# Altium footprint library XH，VH.PcbLib: 67 footprints (part 3 of 5)
Each footprint in its own frame and in the unit in brackets; x right, y up, seen from the top. Pads: shape width x height; smd on the part's side, far side on the other; paste and mask are expansions set on the pad; w line width, h text height; cw(c..) or ccw(c..) is an arc to the next point about the centre after c.
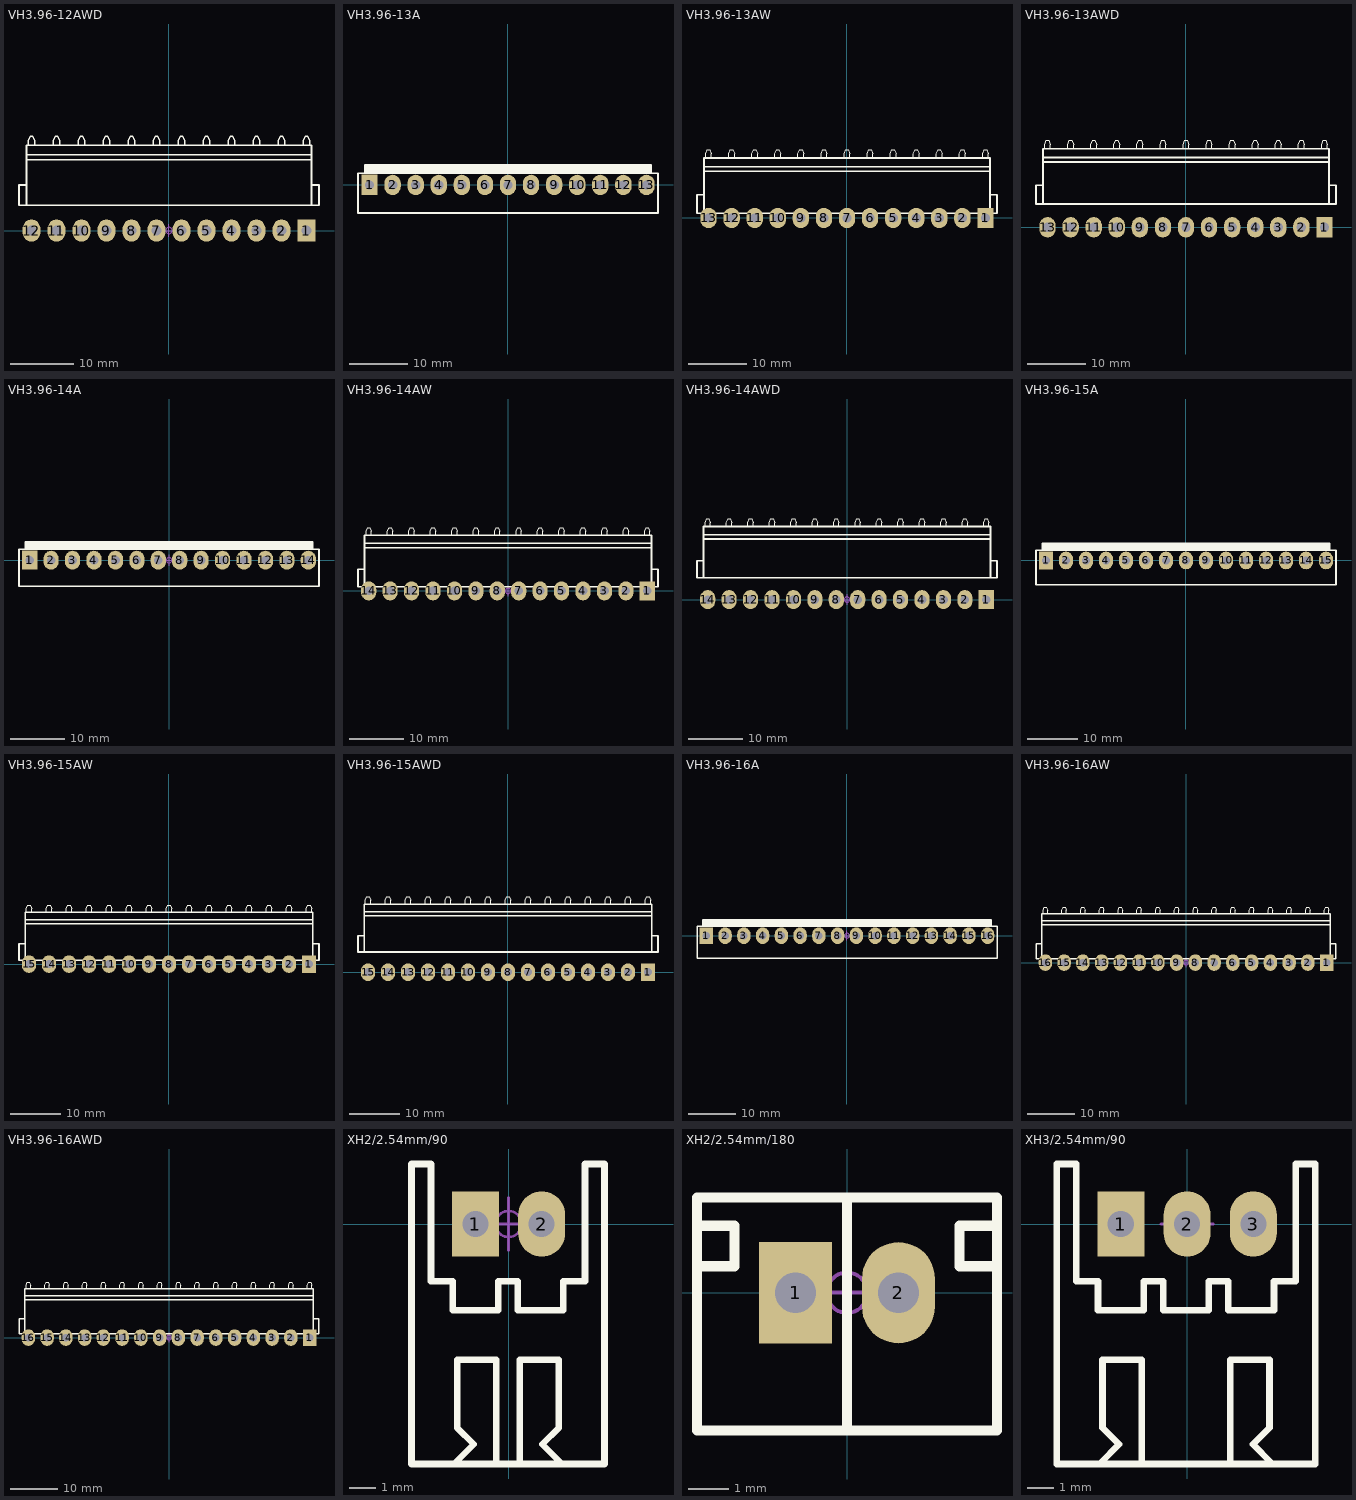
[diagram p2: the footprints below, top view; thin cyan lines are the x and y axes]

## VH3.96-12AWD [mm]
pads (12):
  rect 2.8x3.5 hole 1.6: 1(21.78,0)
  oval 2.8x3.5 hole 1.6: 2(17.82,0) 3(13.86,0) 4(9.9,0) 5(5.94,0) 6(1.98,0) 7(-1.98,0) 8(-5.94,0) 9(-9.9,0) 10(-13.86,0) 11(-17.82,0) 12(-21.78,0)
Top Overlay:
  lines w0.2: -22.28,13.5 -22.28,14.2 -21.98,14.9 -21.58,14.9 -21.28,14.2 -21.28,13.5 ; -18.32,13.5 -18.32,14.2 -18.02,14.9 -17.62,14.9 -17.32,14.2 -17.32,13.5 ; -14.36,13.5 -14.36,14.2 -14.06,14.9 -13.66,14.9 -13.36,14.2 -13.36,13.5 ; -10.4,13.5 -10.4,14.2 -10.1,14.9 -9.7,14.9 -9.4,14.2 -9.4,13.5 ; -6.44,13.5 -6.44,14.2 -6.14,14.9 -5.74,14.9 -5.44,14.2 -5.44,13.5 ; -2.48,13.5 -2.48,14.2 -2.18,14.9 -1.78,14.9 -1.48,14.2 -1.48,13.5 ; 1.48,13.5 1.48,14.2 1.78,14.9 2.18,14.9 2.48,14.2 2.48,13.5 ; 5.44,13.5 5.44,14.2 5.74,14.9 6.14,14.9 6.44,14.2 6.44,13.5 ; 9.4,13.5 9.4,14.2 9.7,14.9 10.1,14.9 10.4,14.2 10.4,13.5 ; 13.36,13.5 13.36,14.2 13.66,14.9 14.06,14.9 14.36,14.2 14.36,13.5 ; 17.32,13.5 17.32,14.2 17.62,14.9 18.02,14.9 18.32,14.2 18.32,13.5 ; 21.28,13.5 21.28,14.2 21.58,14.9 21.98,14.9 22.28,14.2 22.28,13.5
  lines w0.3: -22.56,4 -22.56,13.5 22.56,13.5 22.56,4 ; -22.56,7.2 -23.76,7.2 -23.76,4 23.76,4 23.76,7.2 22.56,7.2 ; -22.56,11.2 22.56,11.2 ; -22.56,12 22.56,12
Mechanical 15:
  circle w0.1: c0,0 r0.5
  lines w0.1: -1,0 1,0 ; 0,-1 0,1
3D body "VH3.96-12AW.STEP": height 8.4, standoff -3.6, extent -23.76,-0.55 23.76,14.9

## VH3.96-13A [mm]
pads (13):
  rect 2.8x3.5 hole 1.6: 1(-23.76,0)
  oval 2.8x3.5 hole 1.6: 2(-19.8,0) 3(-15.84,0) 4(-11.88,0) 5(-7.92,0) 6(-3.96,0) 7(0,0) 8(3.96,0) 9(7.92,0) 10(11.88,0) 11(15.84,0) 12(19.8,0) 13(23.76,0)
Top Overlay:
  lines w0.3: -24.54,2 -24.54,3.4 24.54,3.4 24.54,2 ; -24.54,2.159 24.54,2.159 ; -24.54,2.413 24.54,2.413 ; -24.54,2.667 24.54,2.667 ; -24.54,2.921 24.54,2.921 ; -24.54,3.175 24.54,3.175 ; -25.74,-4.8 25.74,-4.8 25.74,2 -25.74,2 -25.74,-4.8
Mechanical 15:
  circle w0.1: c0,0 r0.5
  lines w0.1: -1,0 1,0 ; 0,-1 0,1
3D body "VH3.96-13A.STEP": height 14.6, standoff -3.6, extent -25.74,-4.8 25.74,3.6

## VH3.96-13AW [mm]
pads (13):
  rect 2.8x3.5 hole 1.6: 1(23.76,0)
  oval 2.8x3.5 hole 1.6: 2(19.8,0) 3(15.84,0) 4(11.88,0) 5(7.92,0) 6(3.96,0) 7(0,0) 8(-3.96,0) 9(-7.92,0) 10(-11.88,0) 11(-15.84,0) 12(-19.8,0) 13(-23.76,0)
Top Overlay:
  lines w0.2: -24.26,10.3 -24.26,11 -23.96,11.7 -23.56,11.7 -23.26,11 -23.26,10.3 ; -20.3,10.3 -20.3,11 -20,11.7 -19.6,11.7 -19.3,11 -19.3,10.3 ; -16.34,10.3 -16.34,11 -16.04,11.7 -15.64,11.7 -15.34,11 -15.34,10.3 ; -12.38,10.3 -12.38,11 -12.08,11.7 -11.68,11.7 -11.38,11 -11.38,10.3 ; -8.42,10.3 -8.42,11 -8.12,11.7 -7.72,11.7 -7.42,11 -7.42,10.3 ; -4.46,10.3 -4.46,11 -4.16,11.7 -3.76,11.7 -3.46,11 -3.46,10.3 ; -0.5,10.3 -0.5,11 -0.2,11.7 0.2,11.7 0.5,11 0.5,10.3 ; 3.46,10.3 3.46,11 3.76,11.7 4.16,11.7 4.46,11 4.46,10.3 ; 7.42,10.3 7.42,11 7.72,11.7 8.12,11.7 8.42,11 8.42,10.3 ; 11.38,10.3 11.38,11 11.68,11.7 12.08,11.7 12.38,11 12.38,10.3 ; 15.34,10.3 15.34,11 15.64,11.7 16.04,11.7 16.34,11 16.34,10.3 ; 19.3,10.3 19.3,11 19.6,11.7 20,11.7 20.3,11 20.3,10.3 ; 23.26,10.3 23.26,11 23.56,11.7 23.96,11.7 24.26,11 24.26,10.3
  lines w0.3: -24.54,0.8 -24.54,10.3 24.54,10.3 24.54,0.8 ; -24.54,4 -25.74,4 -25.74,0.8 25.74,0.8 25.74,4 24.54,4 ; -24.54,8 24.54,8 ; -24.54,8.8 24.54,8.8
Mechanical 15:
  circle w0.1: c0,0 r0.5
  lines w0.1: -1,0 1,0 ; 0,-1 0,1
3D body "VH3.96-13AW.STEP": height 8.4, standoff -3.6, extent -25.74,-0.55 25.74,11.7

## VH3.96-13AWD [mm]
pads (13):
  rect 2.8x3.5 hole 1.6: 1(23.76,0)
  oval 2.8x3.5 hole 1.6: 2(19.8,0) 3(15.84,0) 4(11.88,0) 5(7.92,0) 6(3.96,0) 7(0,0) 8(-3.96,0) 9(-7.92,0) 10(-11.88,0) 11(-15.84,0) 12(-19.8,0) 13(-23.76,0)
Top Overlay:
  lines w0.2: -24.26,13.5 -24.26,14.2 -23.96,14.9 -23.56,14.9 -23.26,14.2 -23.26,13.5 ; -20.3,13.5 -20.3,14.2 -20,14.9 -19.6,14.9 -19.3,14.2 -19.3,13.5 ; -16.34,13.5 -16.34,14.2 -16.04,14.9 -15.64,14.9 -15.34,14.2 -15.34,13.5 ; -12.38,13.5 -12.38,14.2 -12.08,14.9 -11.68,14.9 -11.38,14.2 -11.38,13.5 ; -8.42,13.5 -8.42,14.2 -8.12,14.9 -7.72,14.9 -7.42,14.2 -7.42,13.5 ; -4.46,13.5 -4.46,14.2 -4.16,14.9 -3.76,14.9 -3.46,14.2 -3.46,13.5 ; -0.5,13.5 -0.5,14.2 -0.2,14.9 0.2,14.9 0.5,14.2 0.5,13.5 ; 3.46,13.5 3.46,14.2 3.76,14.9 4.16,14.9 4.46,14.2 4.46,13.5 ; 7.42,13.5 7.42,14.2 7.72,14.9 8.12,14.9 8.42,14.2 8.42,13.5 ; 11.38,13.5 11.38,14.2 11.68,14.9 12.08,14.9 12.38,14.2 12.38,13.5 ; 15.34,13.5 15.34,14.2 15.64,14.9 16.04,14.9 16.34,14.2 16.34,13.5 ; 19.3,13.5 19.3,14.2 19.6,14.9 20,14.9 20.3,14.2 20.3,13.5 ; 23.26,13.5 23.26,14.2 23.56,14.9 23.96,14.9 24.26,14.2 24.26,13.5
  lines w0.3: -24.54,4 -24.54,13.5 24.54,13.5 24.54,4 ; -24.54,7.2 -25.74,7.2 -25.74,4 25.74,4 25.74,7.2 24.54,7.2 ; -24.54,11.2 24.54,11.2 ; -24.54,12 24.54,12
Mechanical 15:
  circle w0.1: c0,0 r0.5
  lines w0.1: -1,0 1,0 ; 0,-1 0,1
3D body "VH3.96-13AW.STEP": height 8.4, standoff -3.6, extent -25.74,-0.55 25.74,14.9

## VH3.96-14A [mm]
pads (14):
  rect 2.8x3.5 hole 1.6: 1(-25.74,0)
  oval 2.8x3.5 hole 1.6: 2(-21.78,0) 3(-17.82,0) 4(-13.86,0) 5(-9.9,0) 6(-5.94,0) 7(-1.98,0) 8(1.98,0) 9(5.94,0) 10(9.9,0) 11(13.86,0) 12(17.82,0) 13(21.78,0) 14(25.74,0)
Top Overlay:
  lines w0.3: -26.52,2 -26.52,3.4 26.52,3.4 26.52,2 ; -26.52,2.159 26.52,2.159 ; -26.52,2.413 26.52,2.413 ; -26.52,2.667 26.52,2.667 ; -26.52,2.921 26.52,2.921 ; -26.52,3.175 26.52,3.175 ; -27.72,-4.8 -27.72,2 27.72,2 27.72,-4.8 -27.72,-4.8
Mechanical 15:
  circle w0.1: c0,0 r0.5
  lines w0.1: -1,0 1,0 ; 0,-1 0,1
3D body "VH3.96-14A.STEP": height 14.6, standoff -3.6, extent -27.72,-4.8 27.72,3.6

## VH3.96-14AW [mm]
pads (14):
  rect 2.8x3.5 hole 1.6: 1(25.74,0)
  oval 2.8x3.5 hole 1.6: 2(21.78,0) 3(17.82,0) 4(13.86,0) 5(9.9,0) 6(5.94,0) 7(1.98,0) 8(-1.98,0) 9(-5.94,0) 10(-9.9,0) 11(-13.86,0) 12(-17.82,0) 13(-21.78,0) 14(-25.74,0)
Top Overlay:
  lines w0.2: -26.24,10.3 -26.24,11 -25.94,11.7 -25.54,11.7 -25.24,11 -25.24,10.3 ; -22.28,10.3 -22.28,11 -21.98,11.7 -21.58,11.7 -21.28,11 -21.28,10.3 ; -18.32,10.3 -18.32,11 -18.02,11.7 -17.62,11.7 -17.32,11 -17.32,10.3 ; -14.36,10.3 -14.36,11 -14.06,11.7 -13.66,11.7 -13.36,11 -13.36,10.3 ; -10.4,10.3 -10.4,11 -10.1,11.7 -9.7,11.7 -9.4,11 -9.4,10.3 ; -6.44,10.3 -6.44,11 -6.14,11.7 -5.74,11.7 -5.44,11 -5.44,10.3 ; -2.48,10.3 -2.48,11 -2.18,11.7 -1.78,11.7 -1.48,11 -1.48,10.3 ; 1.48,10.3 1.48,11 1.78,11.7 2.18,11.7 2.48,11 2.48,10.3 ; 5.44,10.3 5.44,11 5.74,11.7 6.14,11.7 6.44,11 6.44,10.3 ; 9.4,10.3 9.4,11 9.7,11.7 10.1,11.7 10.4,11 10.4,10.3 ; 13.36,10.3 13.36,11 13.66,11.7 14.06,11.7 14.36,11 14.36,10.3 ; 17.32,10.3 17.32,11 17.62,11.7 18.02,11.7 18.32,11 18.32,10.3 ; 21.28,10.3 21.28,11 21.58,11.7 21.98,11.7 22.28,11 22.28,10.3 ; 25.24,10.3 25.24,11 25.54,11.7 25.94,11.7 26.24,11 26.24,10.3
  lines w0.3: -26.52,0.8 -26.52,10.3 26.52,10.3 26.52,0.8 ; -26.52,4 -27.72,4 -27.72,0.8 27.72,0.8 27.72,4 26.52,4 ; -26.52,8 26.52,8 ; -26.52,8.8 26.52,8.8
Mechanical 15:
  circle w0.1: c0,0 r0.5
  lines w0.1: -1,0 1,0 ; 0,-1 0,1
3D body "VH3.96-14AW.STEP": height 8.4, standoff -3.6, extent -27.72,-0.55 27.72,11.7

## VH3.96-14AWD [mm]
pads (14):
  rect 2.8x3.5 hole 1.6: 1(25.74,0)
  oval 2.8x3.5 hole 1.6: 2(21.78,0) 3(17.82,0) 4(13.86,0) 5(9.9,0) 6(5.94,0) 7(1.98,0) 8(-1.98,0) 9(-5.94,0) 10(-9.9,0) 11(-13.86,0) 12(-17.82,0) 13(-21.78,0) 14(-25.74,0)
Top Overlay:
  lines w0.2: -26.24,13.5 -26.24,14.2 -25.94,14.9 -25.54,14.9 -25.24,14.2 -25.24,13.5 ; -22.28,13.5 -22.28,14.2 -21.98,14.9 -21.58,14.9 -21.28,14.2 -21.28,13.5 ; -18.32,13.5 -18.32,14.2 -18.02,14.9 -17.62,14.9 -17.32,14.2 -17.32,13.5 ; -14.36,13.5 -14.36,14.2 -14.06,14.9 -13.66,14.9 -13.36,14.2 -13.36,13.5 ; -10.4,13.5 -10.4,14.2 -10.1,14.9 -9.7,14.9 -9.4,14.2 -9.4,13.5 ; -6.44,13.5 -6.44,14.2 -6.14,14.9 -5.74,14.9 -5.44,14.2 -5.44,13.5 ; -2.48,13.5 -2.48,14.2 -2.18,14.9 -1.78,14.9 -1.48,14.2 -1.48,13.5 ; 1.48,13.5 1.48,14.2 1.78,14.9 2.18,14.9 2.48,14.2 2.48,13.5 ; 5.44,13.5 5.44,14.2 5.74,14.9 6.14,14.9 6.44,14.2 6.44,13.5 ; 9.4,13.5 9.4,14.2 9.7,14.9 10.1,14.9 10.4,14.2 10.4,13.5 ; 13.36,13.5 13.36,14.2 13.66,14.9 14.06,14.9 14.36,14.2 14.36,13.5 ; 17.32,13.5 17.32,14.2 17.62,14.9 18.02,14.9 18.32,14.2 18.32,13.5 ; 21.28,13.5 21.28,14.2 21.58,14.9 21.98,14.9 22.28,14.2 22.28,13.5 ; 25.24,13.5 25.24,14.2 25.54,14.9 25.94,14.9 26.24,14.2 26.24,13.5
  lines w0.3: -26.52,4 -26.52,13.5 26.52,13.5 26.52,4 ; -26.52,7.2 -27.72,7.2 -27.72,4 27.72,4 27.72,7.2 26.52,7.2 ; -26.52,11.2 26.52,11.2 ; -26.52,12 26.52,12
Mechanical 15:
  circle w0.1: c0,0 r0.5
  lines w0.1: -1,0 1,0 ; 0,-1 0,1
3D body "VH3.96-14AW.STEP": height 8.4, standoff -3.6, extent -27.72,-0.55 27.72,14.9

## VH3.96-15A [mm]
pads (15):
  rect 2.8x3.5 hole 1.6: 1(-27.72,0)
  oval 2.8x3.5 hole 1.6: 2(-23.76,0) 3(-19.8,0) 4(-15.84,0) 5(-11.88,0) 6(-7.92,0) 7(-3.96,0) 8(0,0) 9(3.96,0) 10(7.92,0) 11(11.88,0) 12(15.84,0) 13(19.8,0) 14(23.76,0) 15(27.72,0)
Top Overlay:
  lines w0.3: -28.5,2 -28.5,3.4 28.5,3.4 28.5,2 ; -28.5,2.159 28.5,2.159 ; -28.5,2.413 28.5,2.413 ; -28.5,2.667 28.5,2.667 ; -28.5,2.921 28.5,2.921 ; -28.5,3.175 28.5,3.175 ; -29.7,-4.8 29.7,-4.8 29.7,2 -29.7,2 -29.7,-4.8
Mechanical 15:
  circle w0.1: c0,0 r0.5
  lines w0.1: -1,0 1,0 ; 0,-1 0,1
3D body "VH3.96-15A.STEP": height 14.6, standoff -3.6, extent -29.7,-4.8 29.7,3.6

## VH3.96-15AW [mm]
pads (15):
  rect 2.8x3.5 hole 1.6: 1(27.72,0)
  oval 2.8x3.5 hole 1.6: 2(23.76,0) 3(19.8,0) 4(15.84,0) 5(11.88,0) 6(7.92,0) 7(3.96,0) 8(0,0) 9(-3.96,0) 10(-7.92,0) 11(-11.88,0) 12(-15.84,0) 13(-19.8,0) 14(-23.76,0) 15(-27.72,0)
Top Overlay:
  lines w0.2: -28.22,10.3 -28.22,11 -27.92,11.7 -27.52,11.7 -27.22,11 -27.22,10.3 ; -24.26,10.3 -24.26,11 -23.96,11.7 -23.56,11.7 -23.26,11 -23.26,10.3 ; -20.3,10.3 -20.3,11 -20,11.7 -19.6,11.7 -19.3,11 -19.3,10.3 ; -16.34,10.3 -16.34,11 -16.04,11.7 -15.64,11.7 -15.34,11 -15.34,10.3 ; -12.38,10.3 -12.38,11 -12.08,11.7 -11.68,11.7 -11.38,11 -11.38,10.3 ; -8.42,10.3 -8.42,11 -8.12,11.7 -7.72,11.7 -7.42,11 -7.42,10.3 ; -4.46,10.3 -4.46,11 -4.16,11.7 -3.76,11.7 -3.46,11 -3.46,10.3 ; -0.5,10.3 -0.5,11 -0.2,11.7 0.2,11.7 0.5,11 0.5,10.3 ; 3.46,10.3 3.46,11 3.76,11.7 4.16,11.7 4.46,11 4.46,10.3 ; 7.42,10.3 7.42,11 7.72,11.7 8.12,11.7 8.42,11 8.42,10.3 ; 11.38,10.3 11.38,11 11.68,11.7 12.08,11.7 12.38,11 12.38,10.3 ; 15.34,10.3 15.34,11 15.64,11.7 16.04,11.7 16.34,11 16.34,10.3 ; 19.3,10.3 19.3,11 19.6,11.7 20,11.7 20.3,11 20.3,10.3 ; 23.26,10.3 23.26,11 23.56,11.7 23.96,11.7 24.26,11 24.26,10.3 ; 27.22,10.3 27.22,11 27.52,11.7 27.92,11.7 28.22,11 28.22,10.3
  lines w0.3: -28.5,0.8 -28.5,10.3 28.5,10.3 28.5,0.8 ; -28.5,4 -29.7,4 -29.7,0.8 29.7,0.8 29.7,4 28.5,4 ; -28.5,8 28.5,8 ; -28.5,8.8 28.5,8.8
Mechanical 15:
  circle w0.1: c0,0 r0.5
  lines w0.1: -1,0 1,0 ; 0,-1 0,1
3D body "VH3.96-15AW.STEP": height 8.4, standoff -3.6, extent -29.7,-0.55 29.7,11.7

## VH3.96-15AWD [mm]
pads (15):
  rect 2.8x3.5 hole 1.6: 1(27.72,0)
  oval 2.8x3.5 hole 1.6: 2(23.76,0) 3(19.8,0) 4(15.84,0) 5(11.88,0) 6(7.92,0) 7(3.96,0) 8(0,0) 9(-3.96,0) 10(-7.92,0) 11(-11.88,0) 12(-15.84,0) 13(-19.8,0) 14(-23.76,0) 15(-27.72,0)
Top Overlay:
  lines w0.2: -28.22,13.5 -28.22,14.2 -27.92,14.9 -27.52,14.9 -27.22,14.2 -27.22,13.5 ; -24.26,13.5 -24.26,14.2 -23.96,14.9 -23.56,14.9 -23.26,14.2 -23.26,13.5 ; -20.3,13.5 -20.3,14.2 -20,14.9 -19.6,14.9 -19.3,14.2 -19.3,13.5 ; -16.34,13.5 -16.34,14.2 -16.04,14.9 -15.64,14.9 -15.34,14.2 -15.34,13.5 ; -12.38,13.5 -12.38,14.2 -12.08,14.9 -11.68,14.9 -11.38,14.2 -11.38,13.5 ; -8.42,13.5 -8.42,14.2 -8.12,14.9 -7.72,14.9 -7.42,14.2 -7.42,13.5 ; -4.46,13.5 -4.46,14.2 -4.16,14.9 -3.76,14.9 -3.46,14.2 -3.46,13.5 ; -0.5,13.5 -0.5,14.2 -0.2,14.9 0.2,14.9 0.5,14.2 0.5,13.5 ; 3.46,13.5 3.46,14.2 3.76,14.9 4.16,14.9 4.46,14.2 4.46,13.5 ; 7.42,13.5 7.42,14.2 7.72,14.9 8.12,14.9 8.42,14.2 8.42,13.5 ; 11.38,13.5 11.38,14.2 11.68,14.9 12.08,14.9 12.38,14.2 12.38,13.5 ; 15.34,13.5 15.34,14.2 15.64,14.9 16.04,14.9 16.34,14.2 16.34,13.5 ; 19.3,13.5 19.3,14.2 19.6,14.9 20,14.9 20.3,14.2 20.3,13.5 ; 23.26,13.5 23.26,14.2 23.56,14.9 23.96,14.9 24.26,14.2 24.26,13.5 ; 27.22,13.5 27.22,14.2 27.52,14.9 27.92,14.9 28.22,14.2 28.22,13.5
  lines w0.3: -28.5,4 -28.5,13.5 28.5,13.5 28.5,4 ; -28.5,7.2 -29.7,7.2 -29.7,4 29.7,4 29.7,7.2 28.5,7.2 ; -28.5,11.2 28.5,11.2 ; -28.5,12 28.5,12
Mechanical 15:
  circle w0.1: c0,0 r0.5
  lines w0.1: -1,0 1,0 ; 0,-1 0,1
3D body "VH3.96-15AW.STEP": height 8.4, standoff -3.6, extent -29.7,-0.55 29.7,14.9

## VH3.96-16A [mm]
pads (16):
  rect 2.8x3.5 hole 1.6: 1(-29.7,0)
  oval 2.8x3.5 hole 1.6: 2(-25.74,0) 3(-21.78,0) 4(-17.82,0) 5(-13.86,0) 6(-9.9,0) 7(-5.94,0) 8(-1.98,0) 9(1.98,0) 10(5.94,0) 11(9.9,0) 12(13.86,0) 13(17.82,0) 14(21.78,0) 15(25.74,0) 16(29.7,0)
Top Overlay:
  lines w0.3: -30.48,2 -30.48,3.4 30.48,3.4 30.48,2 ; -30.48,2.159 30.48,2.159 ; -30.48,2.413 30.48,2.413 ; -30.48,2.667 30.48,2.667 ; -30.48,2.921 30.48,2.921 ; -30.48,3.175 30.48,3.175 ; -31.68,-4.8 -31.68,2 31.68,2 31.68,-4.8 -31.68,-4.8
Mechanical 15:
  circle w0.1: c0,0 r0.5
  lines w0.1: -1,0 1,0 ; 0,-1 0,1
3D body "VH3.96-16A.STEP": height 14.6, standoff -3.6, extent -31.68,-4.8 31.68,3.6

## VH3.96-16AW [mm]
pads (16):
  rect 2.8x3.5 hole 1.6: 1(29.7,0)
  oval 2.8x3.5 hole 1.6: 2(25.74,0) 3(21.78,0) 4(17.82,0) 5(13.86,0) 6(9.9,0) 7(5.94,0) 8(1.98,0) 9(-1.98,0) 10(-5.94,0) 11(-9.9,0) 12(-13.86,0) 13(-17.82,0) 14(-21.78,0) 15(-25.74,0) 16(-29.7,0)
Top Overlay:
  lines w0.2: -30.2,10.3 -30.2,11 -29.9,11.7 -29.5,11.7 -29.2,11 -29.2,10.3 ; -26.24,10.3 -26.24,11 -25.94,11.7 -25.54,11.7 -25.24,11 -25.24,10.3 ; -22.28,10.3 -22.28,11 -21.98,11.7 -21.58,11.7 -21.28,11 -21.28,10.3 ; -18.32,10.3 -18.32,11 -18.02,11.7 -17.62,11.7 -17.32,11 -17.32,10.3 ; -14.36,10.3 -14.36,11 -14.06,11.7 -13.66,11.7 -13.36,11 -13.36,10.3 ; -10.4,10.3 -10.4,11 -10.1,11.7 -9.7,11.7 -9.4,11 -9.4,10.3 ; -6.44,10.3 -6.44,11 -6.14,11.7 -5.74,11.7 -5.44,11 -5.44,10.3 ; -2.48,10.3 -2.48,11 -2.18,11.7 -1.78,11.7 -1.48,11 -1.48,10.3 ; 1.48,10.3 1.48,11 1.78,11.7 2.18,11.7 2.48,11 2.48,10.3 ; 5.44,10.3 5.44,11 5.74,11.7 6.14,11.7 6.44,11 6.44,10.3 ; 9.4,10.3 9.4,11 9.7,11.7 10.1,11.7 10.4,11 10.4,10.3 ; 13.36,10.3 13.36,11 13.66,11.7 14.06,11.7 14.36,11 14.36,10.3 ; 17.32,10.3 17.32,11 17.62,11.7 18.02,11.7 18.32,11 18.32,10.3 ; 21.28,10.3 21.28,11 21.58,11.7 21.98,11.7 22.28,11 22.28,10.3 ; 25.24,10.3 25.24,11 25.54,11.7 25.94,11.7 26.24,11 26.24,10.3 ; 29.2,10.3 29.2,11 29.5,11.7 29.9,11.7 30.2,11 30.2,10.3
  lines w0.3: -30.48,0.8 -30.48,10.3 30.48,10.3 30.48,0.8 ; -30.48,4 -31.68,4 -31.68,0.8 31.68,0.8 31.68,4 30.48,4 ; -30.48,8 30.48,8 ; -30.48,8.8 30.48,8.8
Mechanical 15:
  circle w0.1: c0,0 r0.5
  lines w0.1: -1,0 1,0 ; 0,-1 0,1
3D body "VH3.96-16AW.STEP": height 8.4, standoff -3.6, extent -31.68,-0.55 31.68,11.7

## VH3.96-16AWD [mm]
pads (16):
  rect 2.8x3.5 hole 1.6: 1(29.7,0)
  oval 2.8x3.5 hole 1.6: 2(25.74,0) 3(21.78,0) 4(17.82,0) 5(13.86,0) 6(9.9,0) 7(5.94,0) 8(1.98,0) 9(-1.98,0) 10(-5.94,0) 11(-9.9,0) 12(-13.86,0) 13(-17.82,0) 14(-21.78,0) 15(-25.74,0) 16(-29.7,0)
Top Overlay:
  lines w0.2: -30.2,10.3 -30.2,11 -29.9,11.7 -29.5,11.7 -29.2,11 -29.2,10.3 ; -26.24,10.3 -26.24,11 -25.94,11.7 -25.54,11.7 -25.24,11 -25.24,10.3 ; -22.28,10.3 -22.28,11 -21.98,11.7 -21.58,11.7 -21.28,11 -21.28,10.3 ; -18.32,10.3 -18.32,11 -18.02,11.7 -17.62,11.7 -17.32,11 -17.32,10.3 ; -14.36,10.3 -14.36,11 -14.06,11.7 -13.66,11.7 -13.36,11 -13.36,10.3 ; -10.4,10.3 -10.4,11 -10.1,11.7 -9.7,11.7 -9.4,11 -9.4,10.3 ; -6.44,10.3 -6.44,11 -6.14,11.7 -5.74,11.7 -5.44,11 -5.44,10.3 ; -2.48,10.3 -2.48,11 -2.18,11.7 -1.78,11.7 -1.48,11 -1.48,10.3 ; 1.48,10.3 1.48,11 1.78,11.7 2.18,11.7 2.48,11 2.48,10.3 ; 5.44,10.3 5.44,11 5.74,11.7 6.14,11.7 6.44,11 6.44,10.3 ; 9.4,10.3 9.4,11 9.7,11.7 10.1,11.7 10.4,11 10.4,10.3 ; 13.36,10.3 13.36,11 13.66,11.7 14.06,11.7 14.36,11 14.36,10.3 ; 17.32,10.3 17.32,11 17.62,11.7 18.02,11.7 18.32,11 18.32,10.3 ; 21.28,10.3 21.28,11 21.58,11.7 21.98,11.7 22.28,11 22.28,10.3 ; 25.24,10.3 25.24,11 25.54,11.7 25.94,11.7 26.24,11 26.24,10.3 ; 29.2,10.3 29.2,11 29.5,11.7 29.9,11.7 30.2,11 30.2,10.3
  lines w0.3: -30.48,0.8 -30.48,10.3 30.48,10.3 30.48,0.8 ; -30.48,4 -31.68,4 -31.68,0.8 31.68,0.8 31.68,4 30.48,4 ; -30.48,8 30.48,8 ; -30.48,8.8 30.48,8.8
Mechanical 15:
  circle w0.1: c0,0 r0.5
  lines w0.1: -1,0 1,0 ; 0,-1 0,1
3D body "VH3.96-16AW.STEP": height 8.4, standoff -3.6, extent -31.68,-0.55 31.68,11.7

## XH2/2.54mm/90 [mm]
pads (2):
  rect 1.8x2.5 hole 1: 1(-1.27,0)
  oval 1.8x2.5 hole 1: 2(1.27,0)
Top Overlay:
  lines w0.254: -2.06,-9.172 -1.333,-8.445 -1.97,-7.809 -1.97,-5.2 -0.47,-5.2 -0.47,-9.2 ; 0.43,-9.2 0.43,-5.2 1.93,-5.2 1.93,-7.809 1.294,-8.445 2.02,-9.172 ; -3.72,-9.2 3.68,-9.2 3.68,2.3 2.93,2.3 2.93,-2.2 2.105,-2.2 2.105,-3.3 0.355,-3.3 0.355,-2.2 -0.395,-2.2 -0.395,-3.3 -2.145,-3.3 -2.145,-2.2 -2.97,-2.2 -2.97,2.3 -3.72,2.3 -3.72,-9.2
Mechanical 15:
  circle w0.1: c0,0 r0.5
  lines w0.1: -1,0 1,0 ; 0,-1 0,1
3D body "JST-S2B-XH-A.STEP": height 6.1, standoff -3.4, extent -3.72,-9.2 3.68,2.3

## XH2/2.54mm/180 [mm]
pads (2):
  rect 1.8x2.5 hole 1: 1(-1.27,0)
  oval 1.8x2.5 hole 1: 2(1.27,0)
Top Overlay:
  lines w0.254: -3.7,0.65 -2.774,0.65 -2.774,1.65 -3.7,1.65 ; 0,-3.4 0,2.35 ; 3.7,0.65 2.774,0.65 2.774,1.65 3.7,1.65 ; -3.7,-3.4 3.7,-3.4 3.7,2.35 -3.7,2.35 -3.7,-3.4
Mechanical 15:
  circle w0.1: c0,0 r0.5
  lines w0.1: -1,0 1,0 ; 0,-1 0,1
3D body "JST-B2B-XH-A.STEP": height 7, standoff -3.4, extent -3.7,-3.4 3.7,2.35

## XH3/2.54mm/90 [mm]
pads (3):
  rect 1.8x2.5 hole 1: 1(-2.54,0)
  oval 1.8x2.5 hole 1: 2(0,0) 3(2.54,0)
Top Overlay:
  lines w0.254: -3.33,-9.172 -2.603,-8.445 -3.24,-7.809 -3.24,-5.2 -1.74,-5.2 -1.74,-9.2 ; 1.66,-9.2 1.66,-5.2 3.16,-5.2 3.16,-7.809 2.524,-8.445 3.25,-9.172 ; -4.99,-9.2 -4.99,2.3 -4.24,2.3 -4.24,-2.2 -3.415,-2.2 -3.415,-3.3 -1.665,-3.3 -1.665,-2.2 -0.915,-2.2 -0.915,-3.3 0.835,-3.3 0.835,-2.2 1.585,-2.2 1.585,-3.3 3.335,-3.3 3.335,-2.2 4.16,-2.2 4.16,2.3 4.91,2.3 4.91,-9.2 -4.99,-9.2
Mechanical 15:
  circle w0.1: c0,0 r0.5
  lines w0.1: -1,0 1,0 ; 0,-1 0,1
3D body "JST-S3B-XH-A.STEP": height 6.1, standoff -3.4, extent -4.99,-9.2 4.91,2.3